# Altium footprint library F405 MCU1.PcbLib: 18 footprints (part 1 of 2)
Each footprint in its own frame and in the unit in brackets; x right, y up, seen from the top. Pads: shape width x height; smd on the part's side, far side on the other; paste and mask are expansions set on the pad; w line width, h text height; cw(c..) or ccw(c..) is an arc to the next point about the centre after c.
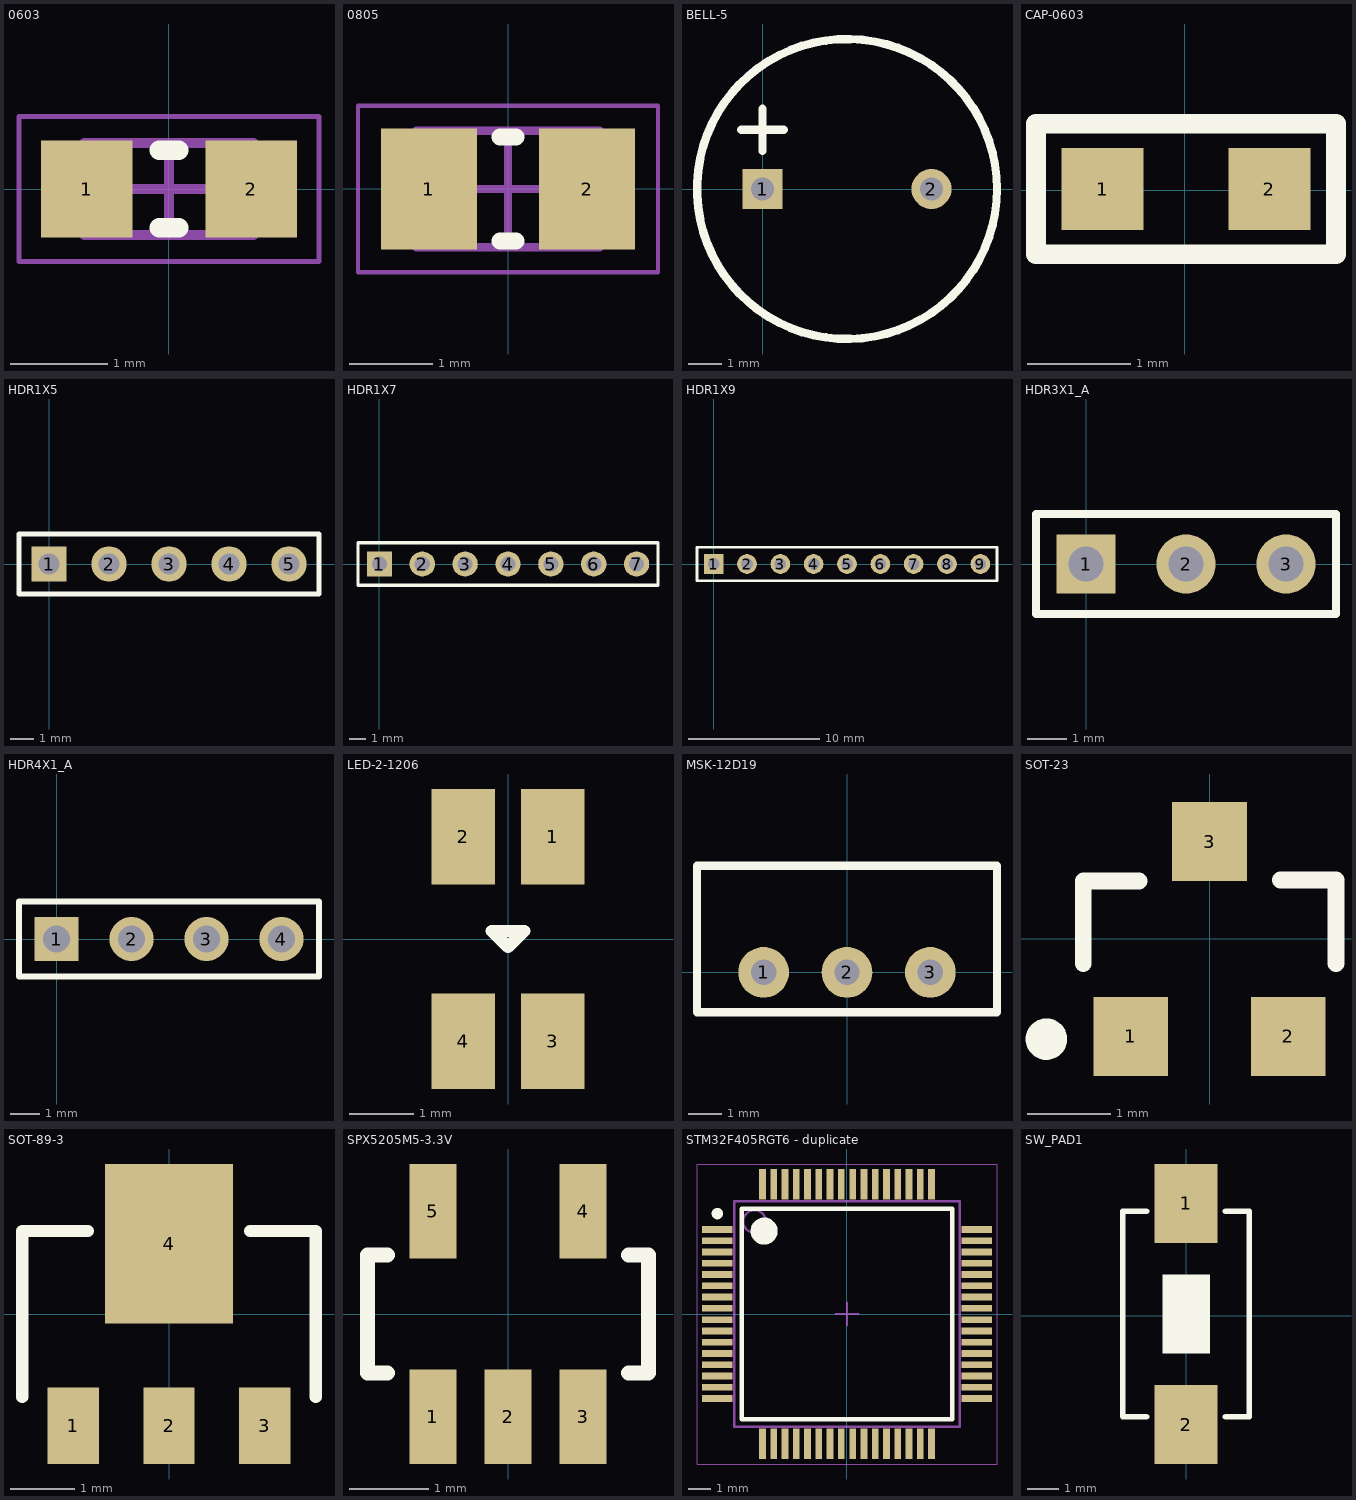
[diagram p0: the footprints below, top view; thin cyan lines are the x and y axes]

## 0603 [mm]
pads (2):
  rect 0.95x1 smd: 1(-0.85,0) 2(0.85,0)
Top Overlay:
  lines w0.2: -0.1,-0.4 0.1,-0.4 ; -0.1,0.4 0.1,0.4
Mechanical 13:
  lines w0.1: -0.875,-0.475 -0.875,0.475 0.875,0.475 0.875,-0.475 -0.875,-0.475
Mechanical 15:
  lines w0.05: -1.55,-0.75 -1.55,0.75 1.55,0.75 1.55,-0.75 -1.55,-0.75
  lines w0.1: -0.475,0 0.475,0 ; 0,-0.475 0,0.475
3D body: height 0.5, standoff 0, extent -0.625,-0.475 0.625,0.475
3D body: height 0.5, standoff 0, extent -0.875,-0.475 -0.625,0.475
3D body: height 0.5, standoff 0, extent 0.625,-0.475 0.875,0.475

## 0805 [mm]
pads (2):
  rect 1.15x1.45 smd: 1(-0.95,0) 2(0.95,0)
Top Overlay:
  lines w0.2: -0.1,-0.625 0.1,-0.625 ; -0.1,0.625 0.1,0.625
Mechanical 13:
  lines w0.1: -1.1,-0.7 -1.1,0.7 1.1,0.7 1.1,-0.7 -1.1,-0.7
Mechanical 15:
  lines w0.05: -1.8,-1 -1.8,1 1.8,1 1.8,-1 -1.8,-1
  lines w0.1: -0.5,0 0.5,0 ; 0,-0.5 0,0.5
3D body: height 0.6, standoff 0, extent -0.7,-0.7 0.7,0.7
3D body: height 0.6, standoff 0, extent -1.1,-0.7 -0.7,0.7
3D body: height 0.6, standoff 0, extent 0.7,-0.7 1.1,0.7

## BELL-5 [mm]
pads (2):
  rect 1.2x1.2 hole 0.7: 1(0,0)
  round 1.2 hole 0.7: 2(5.08,0)
Top Overlay:
  circle w0.254: c2.54,0 r4.51
  lines w0.254: -0.635,1.778 0.635,1.778 ; 0,1.143 0,2.413

## CAP-0603 [mm]
pads (2):
  rect 0.8x0.8 smd: 1(-0.8,0.013) 2(0.826,0.013)
Top Overlay:
  lines w0.191: 0.33,-0.622 1.473,-0.622 1.473,-0.305 1.473,0.33 1.473,0.648 0.33,0.648 ; 0.381,0.648 -0.622,0.648 -1.003,0.648 -1.194,0.648 -1.448,0.648 -1.448,-0.622 -1.194,-0.622 0.394,-0.622
3D body: height 0.51, standoff 0, extent -0.648,-0.368 0.699,0.394
3D body: height 0.51, standoff 0, extent -0.851,-0.368 -0.648,0.394
3D body: height 0.51, standoff 0, extent 0.699,-0.368 0.902,0.394

## HDR1X5 [mm]
pads (5):
  rect 1.5x1.5 hole 0.9: 1(0,0)
  round 1.5 hole 0.9: 2(2.54,0) 3(5.08,0) 4(7.62,0) 5(10.16,0)
Top Overlay:
  lines w0.2: -1.27,-1.27 11.43,-1.27 11.43,1.27 -1.27,1.27 -1.27,-1.27

## HDR1X7 [mm]
pads (7):
  rect 1.5x1.5 hole 0.9: 1(0,0)
  round 1.5 hole 0.9: 2(2.54,0) 3(5.08,0) 4(7.62,0) 5(10.16,0) 6(12.7,0) 7(15.24,0)
Top Overlay:
  lines w0.2: -1.27,-1.27 16.51,-1.27 16.51,1.27 -1.27,1.27 -1.27,-1.27

## HDR1X9 [mm]
pads (9):
  rect 1.5x1.5 hole 0.9: 1(0,0)
  round 1.5 hole 0.9: 2(2.54,0) 3(5.08,0) 4(7.62,0) 5(10.16,0) 6(12.7,0) 7(15.24,0) 8(17.78,0) 9(20.32,0)
Top Overlay:
  lines w0.2: -1.27,-1.27 -1.27,1.27 21.59,1.27 21.59,-1.27 -1.27,-1.27

## HDR3X1_A [mm]
pads (3):
  rect 1.5x1.5 hole 0.9: 1(0,0)
  round 1.5 hole 0.9: 2(2.54,0) 3(5.08,0)
Top Overlay:
  lines w0.2: -1.27,-1.27 -1.27,1.27 6.35,1.27 6.35,-1.27 -1.27,-1.27

## HDR4X1_A [mm]
pads (4):
  rect 1.5x1.5 hole 0.9: 1(0,0)
  round 1.5 hole 0.9: 2(2.54,0) 3(5.08,0) 4(7.62,0)
Top Overlay:
  lines w0.2: -1.27,-1.27 -1.27,1.27 8.89,1.27 8.89,-1.27 -1.27,-1.27

## LED-2-1206 [mm]
pads (4):
  rect 1x1.5 smd: 1(0.7,1.6) 2(-0.7,1.6) 3(0.7,-1.6) 4(-0.7,-1.6)
Top Overlay:
  lines w0.191: -0.254,0.127 0.254,0.127 0,-0.127 -0.254,0.127
3D body: height 0.55, standoff 0, extent -1.206,-1.6 1.194,1.6

## MSK-12D19 [mil]
pads (3):
  round 60 hole 30: 1(-98.43,0) 2(0,0) 3(98.43,0)
Top Overlay:
  lines w10: -177.17,-47.24 177.17,-47.24 177.17,125.98 -177.17,125.98 -177.17,-47.24

## SOT-23 [mm]
pads (3):
  rect 0.9x0.95 smd: 1(-0.95,-1.175) 2(0.95,-1.175) 3(0,1.175)
Top Overlay:
  circle w0.25: c-1.967,-1.206 r0.125
  lines w0.2: -1.524,-0.3 -1.524,0.699 -0.85,0.699 ; 0.85,0.711 1.524,0.711 1.524,-0.3
3D body: height 1.1, standoff 0, extent -1.525,-0.7 1.525,0.7

## SOT-89-3 [mm]
pads (4):
  rect 0.8x1.2 smd: 1(-1.5,-1.75) 2(0,-1.75) 3(1.5,-1.75)
  rect 2x2.5 smd: 4(0,1.1)
Top Overlay:
  lines w0.191: -2.3,-1.3 -2.3,1.3 -1.27,1.3 ; 1.27,1.3 2.3,1.3 2.3,-1.3
3D body: height 1.5, standoff 0, extent -2.184,-1.321 2.184,1.181

## SPX5205M5-3.3V [mm]
pads (5):
  rect 0.6x1.2 smd: 1(-0.95,-1.3) 2(0,-1.3) 3(0.95,-1.3) 4(0.95,1.3) 5(-0.95,1.3)
Top Overlay:
  lines w0.191: -1.524,-0.75 -1.781,-0.75 -1.781,0.75 -1.524,0.75 ; 1.524,-0.75 1.781,-0.75 1.781,0.75 1.524,0.75

## STM32F405RGT6 - duplicate [mm]
pads (64):
  rect 1.35x0.3 smd: 1(-5.75,3.75) 2(-5.75,3.25) 3(-5.75,2.75) 4(-5.75,2.25) 5(-5.75,1.75) 6(-5.75,1.25) 7(-5.75,0.75) 8(-5.75,0.25) 9(-5.75,-0.25) 10(-5.75,-0.75) 11(-5.75,-1.25) 12(-5.75,-1.75) 13(-5.75,-2.25) 14(-5.75,-2.75) 15(-5.75,-3.25) 16(-5.75,-3.75) 33(5.75,-3.75) 34(5.75,-3.25) 35(5.75,-2.75) 36(5.75,-2.25) 37(5.75,-1.75) 38(5.75,-1.25) 39(5.75,-0.75) 40(5.75,-0.25) 41(5.75,0.25) 42(5.75,0.75) 43(5.75,1.25) 44(5.75,1.75) 45(5.75,2.25) 46(5.75,2.75) 47(5.75,3.25) 48(5.75,3.75)
  rect 0.3x1.35 smd: 17(-3.75,-5.75) 18(-3.25,-5.75) 19(-2.75,-5.75) 20(-2.25,-5.75) 21(-1.75,-5.75) 22(-1.25,-5.75) 23(-0.75,-5.75) 24(-0.25,-5.75) 25(0.25,-5.75) 26(0.75,-5.75) 27(1.25,-5.75) 28(1.75,-5.75) 29(2.25,-5.75) 30(2.75,-5.75) 31(3.25,-5.75) 32(3.75,-5.75) 49(3.75,5.75) 50(3.25,5.75) 51(2.75,5.75) 52(2.25,5.75) 53(1.75,5.75) 54(1.25,5.75) 55(0.75,5.75) 56(0.25,5.75) 57(-0.25,5.75) 58(-0.75,5.75) 59(-1.25,5.75) 60(-1.75,5.75) 61(-2.25,5.75) 62(-2.75,5.75) 63(-3.25,5.75) 64(-3.75,5.75)
Top Overlay:
  circle w0.6: c-3.675,3.675 r0.3
  circle w0.25: c-5.75,4.45 r0.125
  lines w0.2: -4.675,-4.675 4.675,-4.675 4.675,4.675 -4.675,4.675 -4.675,-4.675
Mechanical 13:
  circle w0.1: c-4.1,4.1 r0.5
  lines w0.1: -5,-5 5,-5 5,5 -5,5 -5,-5
Mechanical 15:
  lines w0.05: -6.65,-6.65 6.65,-6.65 6.65,6.65 -6.65,6.65 -6.65,-6.65
  lines w0.1: -0.5,0 0.5,0 ; 0,-0.5 0,0.5
3D body: height 1.6, standoff 0.12, extent -5,-5 5,5

## SW_PAD1 [mm]
pads (2):
  rect 2x2.5 smd: 1(0,3.556) 2(0,-3.444)
Top Overlay:
  region: -0.747,1.309 -0.747,-1.191 0.753,-1.191 0.753,1.309
  lines w0.178: -1.25,-3.194 -2,-3.19 -2,3.306 -1.25,3.306 ; 1.25,-3.194 2,-3.194 2,3.306 1.25,3.306
3D body: height 0.8, standoff 0, extent -2.032,-3.175 2.032,3.302
3D body: height 1.2, standoff 0.8, extent -0.762,-1.143 0.762,1.27